# EAGLE library part 6120XX22921_61203422921 (library 61201021621_Eagle_WR-BHD_rev19b)
2.54 mm Male Angled Box Header with long lever KIND PROPERTIES: Pitch 2.54 mm Gender:Male MATERIAL PROPERTIES: Insulator Material:PBT Insulator Flammability Rating UL94 V-0 Insulator Color:Black Contact Material :Copper Alloy Contact Plating :Gold Contact Type: Stamped GENERAL INFORMATION: Operating Temperature:-40 °C up to +125 °C Compliance:RoHS Working Voltage: 250 V (AC) Withstanding Voltage:500 V (AC) Contact Resistance: 20 mΩ Insulation Resistance:1000 MΩ CERTIFICATION UL Approval:E323964 PACKAGING PROPERTIES Packaging :Tray <https://katalog.we-online.com/media/images/v2/o58851v209%20Family_long_lever_WR-BHD_6120xx22x21.jpg> Details see: https://katalog.we-online.com/en/em/BHD_2_54_MALE_ANGLED_BOX_HEADER_WITH_LONG_LEVER_6120XX22921 Updated by Yingchun,Shan 2019-10-31 2019 (C) Würth Elektronik
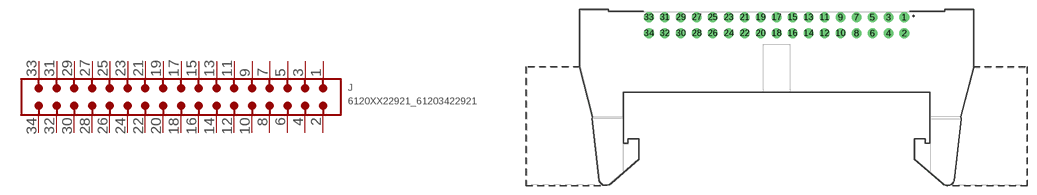
[diagram p158: symbol with the pads of 61203422921; footprint 61203422921]

Designator prefix J

## 6120XX22921_61203422921 (CONTACT-RESISTANCE: 20mOhm; DATASHEET-URL: https://katalog.we-online.com/em/datasheet/61203422921.pdf; GENDER: Male; IR: 3A; L: 62.48mm; MATES: WR-BHD 2.54mm Female IDC Connector with Strain Relief; MOUNT: THT; PACKAGING: Tray; PART-NUMBER: 61203422921; PINS: 34; PITCH: 2.54mm; TOL-R: max.; TYPE: Angled; WORKING-VOLTAGE: 250V(AC))  [61203422921]
1  1  pas
2  2  pas
3  3  pas
4  4  pas
5  5  pas
6  6  pas
7  7  pas
8  8  pas
9  9  pas
10  10  pas
11  11  pas
12  12  pas
13  13  pas
14  14  pas
15  15  pas
16  16  pas
17  17  pas
18  18  pas
19  19  pas
20  20  pas
21  21  pas
22  22  pas
23  23  pas
24  24  pas
25  25  pas
26  26  pas
27  27  pas
28  28  pas
29  29  pas
30  30  pas
31  31  pas
32  32  pas
33  33  pas
34  34  pas

## Footprint 61203422921 (pad centres in mm)
WR-BHD 2.54 mm Male Angled Box Header with long lever, 34 Pins
drill 1.02: 1 20.32,7.36; 2 20.32,4.82; 3 17.78,7.36; 4 17.78,4.82; 5 15.24,7.36; 6 15.24,4.82; 7 12.7,7.36; 8 12.7,4.82; 9 10.16,7.36; 10 10.16,4.82; 11 7.62,7.36; 12 7.62,4.82; 13 5.08,7.36; 14 5.08,4.82; 15 2.54,7.36; 16 2.54,4.82; 17 0,7.36; 18 0,4.82; 19 -2.54,7.36; 20 -2.54,4.82; 21 -5.08,7.36; 22 -5.08,4.82; 23 -7.62,7.36; 24 -7.62,4.82; 25 -10.16,7.36; 26 -10.16,4.82; 27 -12.7,7.36; 28 -12.7,4.82; 29 -15.24,7.36; 30 -15.24,4.82; 31 -17.78,7.36; 32 -17.78,4.82; 33 -20.32,7.36; 34 -20.32,4.82